# EAGLE library part MSTBA6 (library Copy of CON_PHOENIX_508)
PHOENIX
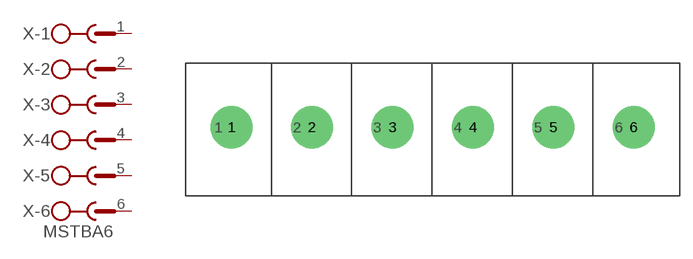
[diagram p49: symbol with the pads of MSTBA6; footprint MSTBA6]

Designator prefix X; gates -1=SK -2=SK -3=SK -4=SK -5=SK -6=SKV

## MSTBA6  [MSTBA6]
1  -1:1  pas
2  -2:1  pas
3  -3:1  pas
4  -4:1  pas
5  -5:1  pas
6  -6:1  pas

## Footprint MSTBA6 (pad centres in mm)
PHOENIX
drill 1.6 pad 5 round: 1 -23.495,0; 2 -13.97,0; 3 -4.445,0; 4 5.08,0; 5 14.605,0; 6 24.13,0